# Altium schematic symbol library Schlib1.SchLib: 7 symbols
Pins are listed as number, name and electrical type; pins without a type are passive.

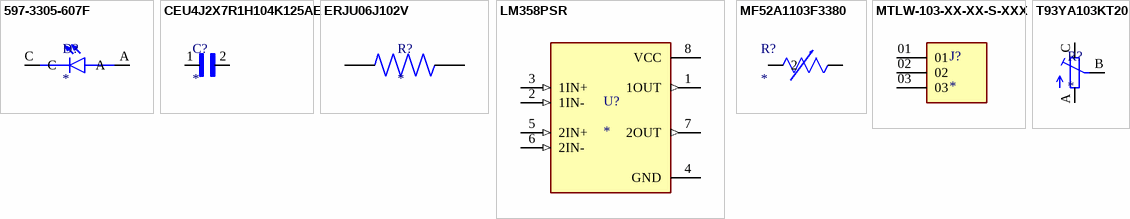
[diagram p0: symbols 597-3305-607F to T93YA103KT20]

## 597-3305-607F
designator D?
LED Uni-Color Green 4-Pin Chip 0805 T/R; MP: 597-3305-607F; Availability: Unavailable; Value: *; Price: None; Package: None
footprint LEDC2012X70N
pins: A, C

## CEU4J2X7R1H104K125AE
designator C?
0.1 ÂµF Â±10% 50V Ceramic Capacitor X7R 0805 (2012 Metric); MF: TDK; MP: CEU4J2X7R1H104K125AE; Value: *; Availability: In Stock; SnapEDA_Link: https://www.snapeda.com/parts/CEU4J2X7R1H104K125AE/TDK/view-part/?ref=snap; Check_prices: https://www.snapeda.com/parts/CEU4J2X7R1H104K125AE/TDK/view-part/?ref=eda; Package: 2012 TDK; Purchase-URL: https://pricing.snapeda.com/search/part/CEU4J2X7R1H104K125AE/?ref=eda; Price: None
footprint CAPC2012X150N
pins: 1, 2

## ERJU06J102V
designator R?
MP: ERJU06J102V; Availability: Unavailable; Value: *; Price: None; Package: None
footprint RES_ERJU06J102V (Footprint not found)
footprint RES_ERJU06J102V
pins: 1, 2

## LM358PSR
designator U?
Dual, 30-V, 700-kHz operational amplifier; MF: Texas Instruments; MP: LM358PSR; SnapEDA_Link: https://www.snapeda.com/parts/LM358PSR/Texas+Instruments/view-part/?ref=snap; Package: SOP-8 Texas Instruments; Value: *; Check_prices: https://www.snapeda.com/parts/LM358PSR/Texas+Instruments/view-part/?ref=eda
footprint SOIC127P780X200-8N
pins: 1 1OUT (out), 2 1IN- (in), 3 1IN+ (in), 4 GND (power), 5 2IN+ (in), 6 2IN- (in), 7 2OUT (out), 8 VCC (power)

## MF52A1103F3380
designator R?
THERMISTOR NTC 10KOHM 3380K BEAD; MF: Cantherm; MP: MF52A1103F3380; SnapEDA_Link: https://www.snapeda.com/parts/MF52A1103F3380/Cantherm/view-part/?ref=snap; Package: Bead Cantherm; Value: *; Check_prices: https://www.snapeda.com/parts/MF52A1103F3380/Cantherm/view-part/?ref=eda
footprint TRES_MF52-A_CTM
pins: 1, 2

## MTLW-103-XX-XX-S-XXX
designator J?
Connector Header Through Hole 40 position 0.100" (2.54mm); MP: MTLW-103-XX-XX-S-XXX; Package: None; Price: None; Value: *; Availability: Unavailable
footprint SAMTEC_MTLW-103-XX-XX-S-XXX
pins: 01, 02, 03

## T93YA103KT20
designator R?
10 kOhms 0.5W, 1/2W PC Pins Through Hole Trimmer Potentiometer Cermet 21.0 Turn Top Adjustment; MF: Vishay; MP: T93YA103KT20; SnapEDA_Link: https://www.snapeda.com/parts/T93YA103KT20/Vishay+Sfernice/view-part/?ref=snap; Package: TSOP-32338 Vishay; Value: *; Check_prices: https://www.snapeda.com/parts/T93YA103KT20/Vishay+Sfernice/view-part/?ref=eda
footprint TRIM_T93YA103KT20
pins: A, B, C